# Altium schematic symbol library ZenerDiode_BZX84C10-TP.SchLib: 1 symbol
Pins are listed as number, name and electrical type; pins without a type are passive.

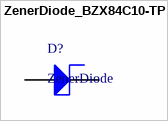
[diagram p0: symbol ZenerDiode_BZX84C10-TP]

## ZenerDiode_BZX84C10-TP
designator D?, comment ZenerDiode
pins: 1 A, 3 K